# Altium schematic symbol library 保险丝-晶振.SchLib: 6 symbols
Pins are listed as number, name and electrical type; pins without a type are passive.

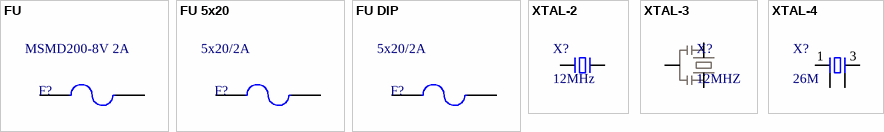
[diagram p0: symbols FU to XTAL-4]

## FU
designator F?, comment MSMD200-8V 2A
贴片保险丝; 版权归属: 源创客; BOM名称: 贴片保险丝; 学习资源: www.ooocke.com
footprint FU 0402 (贴片保险丝)
footprint FU 0603 (贴片保险丝)
footprint FU 0805 (贴片保险丝)
footprint FU 1206 (贴片保险丝)
footprint FU 1210 (贴片保险丝)
footprint FU 1812 (贴片保险丝)
pins: 1, 2

## FU 5x20
designator F?, comment 5x20/2A
5*20保险丝; 版权归属: 源创客; BOM名称: 5*20保险丝; 学习资源: www.ooocke.com
footprint FU BLX-A (BLX-A型保险丝座)
footprint FU 5x20 (5*20保险管底座夹子)
pins: 1, 2

## FU DIP
designator F?, comment 5x20/2A
直插保险丝; 版权归属: 源创客; BOM名称: 直插保险丝; 学习资源: www.ooocke.com
footprint FU 4x16 (4*16mm(直径，脚距）)
footprint FU 4x16_V (4*16mm(直径，脚距）)
pins: 1, 2

## XTAL-2
designator X?, comment 12MHz
2脚晶振; 版权归属: 源创客; BOM名称: 2脚晶振; 学习资源: www.ooocke.com
footprint XTAL-3X10
footprint XTAL-3X8
footprint XTAL-2X6H
footprint XTAL-2X6
footprint XTAL-49S DIP
footprint XTAL-3215
footprint XTAL-3X8H
footprint XTAL-49S SMD
pins: 1, 2

## XTAL-3
designator X?, comment 12MHZ
3脚晶振
footprint XTAL-3213
pins: 1 XATAL-1, 2 GND, 3 XTAL-2

## XTAL-4
designator X?, comment 26M
4脚晶振; 版权归属: 源创客; BOM名称: 4脚晶振; 学习资源: www.ooocke.com
footprint XTAL-5032
footprint XTAL-3225
pins: 1, 2, 3, 4